# Altium footprint library RE_LVK20_OHMITE.PcbLib: 1 footprints
Each footprint in its own frame and in the unit in brackets; x right, y up, seen from the top. Pads: shape width x height; smd on the part's side, far side on the other; paste and mask are expansions set on the pad; w line width, h text height; cw(c..) or ccw(c..) is an arc to the next point about the centre after c.
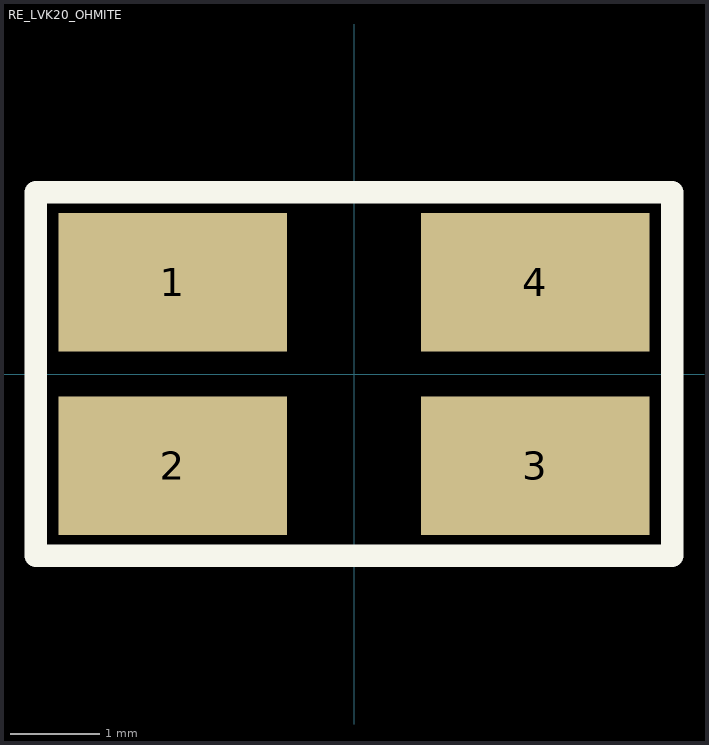
[diagram p0: the footprint, top view; thin cyan lines are the x and y axes]

## RE_LVK20_OHMITE [mm] "Ohmite 2010 Kelvin resistor"
pads (4):
  rect 2.55x1.55 smd: 1(-2.025,1.025) 2(-2.025,-1.025) 3(2.025,-1.025) 4(2.025,1.025)
Top Overlay:
  lines w0.254: -3.556,-2.032 3.556,-2.032 3.556,2.032 -3.556,2.032 -3.556,-2.032
3D body: height 0.62, standoff 0, extent -3,-1.35 3,1.35